# EAGLE library part PS-10PE-D4T2-M1E (library FlukeNic)
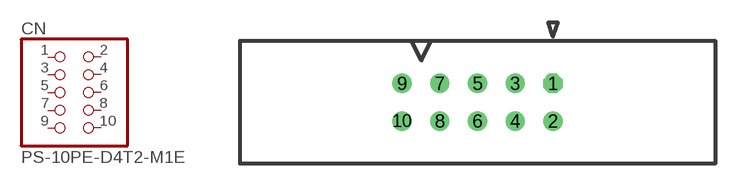
[diagram p9: symbol with the pads of PS-10PE-D4T2-M1E; footprint PS-10PE-D4T2-M1E]

Designator prefix CN

## PS-10PE-D4T2-M1E  [PS-10PE-D4T2-M1E]
1  1  pas
2  2  pas
3  3  pas
4  4  pas
5  5  pas
6  6  pas
7  7  pas
8  8  pas
9  9  pas
10  10  pas

## Footprint PS-10PE-D4T2-M1E (pad centres in mm)
drill 0.8 octagon: 1 5.08,1.27
drill 0.8: 2 5.08,-1.27; 3 2.54,1.27; 4 2.54,-1.27; 5 0,1.27; 6 0,-1.27; 7 -2.54,1.27; 8 -2.54,-1.27; 9 -5.08,1.27; 10 -5.08,-1.27